# Altium schematic symbol library 74HC59x.SchLib: 6 symbols
Pins are listed as number, name and electrical type; pins without a type are passive.

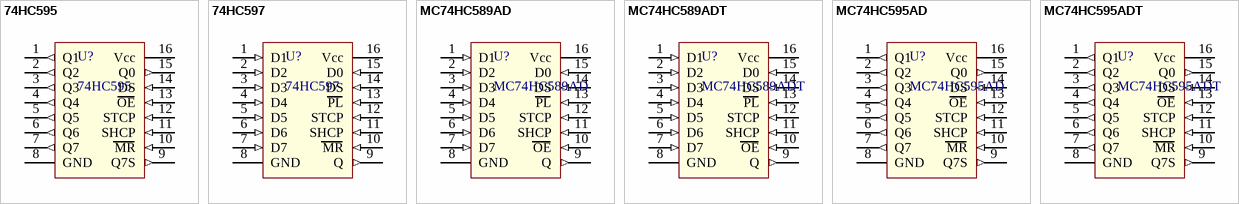
[diagram p0: symbols 74HC595 to MC74HC595ADT]

## 74HC595
designator U?
74HC595 SIPO Register SPI-compatible; Supplier 1: Digi-Key; Supplier 2: Digi-Key; Supplier 3: Digi-Key; Supplier Part Number 1: 568-1483-6-ND; Supplier Part Number 2: 568-3968-5-ND; Supplier Part Number 3: 74HC595D(BJ)DKR-ND
footprint LC-SOIC-16_150mil
pins: 1 Q1 (out), 2 Q2 (out), 3 Q3 (out), 4 Q4 (out), 5 Q5 (out), 6 Q6 (out), 7 Q7 (out), 8 GND, 9 Q7S (out), 10 MR (in), 11 SHCP (in), 12 STCP (in), 13 OE (in), 14 DS (in), 15 Q0 (out), 16 Vcc

## 74HC597
designator U?
74HC597 PISO Register SPI-non-compatible; Supplier 1: Digi-Key; Supplier 2: Digi-Key; Supplier 3: Digi-Key; Supplier Part Number 1: MC74HC597ADR2GOSDKR-ND; Supplier Part Number 2: 568-1485-5-ND; Supplier Part Number 3: 497-1881-6-ND
footprint LC-SOIC-16_150mil
pins: 1 D1 (in), 2 D2 (in), 3 D3 (in), 4 D4 (in), 5 D5 (in), 6 D6 (in), 7 D7 (in), 8 GND, 9 Q (out), 10 MR (in), 11 SHCP (in), 12 STCP (in), 13 PL (in), 14 DS (in), 15 D0 (in), 16 Vcc

## MC74HC589AD
designator U?
SO-16 PISO Register SPI-compatible ON Semi
footprint LC-SOIC-16_150mil
pins: 1 D1 (in), 2 D2 (in), 3 D3 (in), 4 D4 (in), 5 D5 (in), 6 D6 (in), 7 D7 (in), 8 GND, 9 Q (out), 10 OE (in), 11 SHCP (in), 12 STCP (in), 13 PL (in), 14 DS (in), 15 D0 (in), 16 Vcc

## MC74HC589ADT
designator U?
TSSOP-16 PISO Register SPI-compatible ON Semi
footprint LC-TSSOP-16
pins: 1 D1 (in), 2 D2 (in), 3 D3 (in), 4 D4 (in), 5 D5 (in), 6 D6 (in), 7 D7 (in), 8 GND, 9 Q (out), 10 OE (in), 11 SHCP (in), 12 STCP (in), 13 PL (in), 14 DS (in), 15 D0 (in), 16 Vcc

## MC74HC595AD
designator U?
SO-16 SIPO Register SPI-compatible ON Semi; Supplier 1: Digi-Key; Supplier 2: Digi-Key; Supplier 3: Digi-Key; Supplier Part Number 1: 568-1483-6-ND; Supplier Part Number 2: 568-3968-5-ND; Supplier Part Number 3: 74HC595D(BJ)DKR-ND
footprint LC-SOIC-16_150mil
pins: 1 Q1 (out), 2 Q2 (out), 3 Q3 (out), 4 Q4 (out), 5 Q5 (out), 6 Q6 (out), 7 Q7 (out), 8 GND, 9 Q7S (out), 10 MR (in), 11 SHCP (in), 12 STCP (in), 13 OE (in), 14 DS (in), 15 Q0 (out), 16 Vcc

## MC74HC595ADT
designator U?
TSSOP-16 SIPO Register SPI-compatible ON Semi; Supplier 1: Digi-Key; Supplier 2: Digi-Key; Supplier 3: Digi-Key; Supplier Part Number 1: 568-1483-6-ND; Supplier Part Number 2: 568-3968-5-ND; Supplier Part Number 3: 74HC595D(BJ)DKR-ND
footprint LC-TSSOP-16
pins: 1 Q1 (out), 2 Q2 (out), 3 Q3 (out), 4 Q4 (out), 5 Q5 (out), 6 Q6 (out), 7 Q7 (out), 8 GND, 9 Q7S (out), 10 MR (in), 11 SHCP (in), 12 STCP (in), 13 OE (in), 14 DS (in), 15 Q0 (out), 16 Vcc